# EAGLE library part ATTINYX5 (library 3DRobotics_Master_Library)
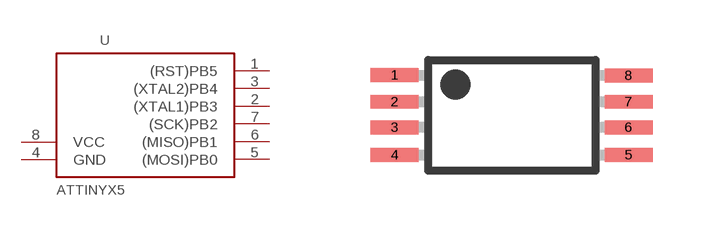
[diagram p2: symbol with the pads of TSSOP8; footprint TSSOP8]

Designator prefix -

## ATTINYX5  [TSSOP8]
1  (RST)PB5
2  (XTAL1)PB3
3  (XTAL2)PB4
4  GND  pwr
5  (MOSI)PB0
6  (MISO)PB1
7  (SCK)PB2
8  VCC  pwr

## Footprint TSSOP8 (pad centres in mm)
smd 1.2 x 0.35: 1 -2.92,1; 2 -2.92,0.33; 3 -2.92,-0.31; 4 -2.92,-1; 5 2.93,-1; 6 2.93,-0.31; 7 2.93,0.33; 8 2.93,0.99